# EAGLE library part TPS774* (library texas)
250-mA LDO REGULATORS WITH POWER GOOD OUTPUT Source: (TPS774) <http://www.ti.com/lit/ds/symlink/tps773.pdf>
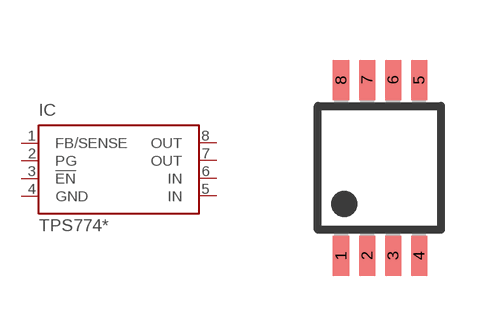
[diagram p18: symbol with the pads of DGK_S-PDSO-G8; footprint DGK_S-PDSO-G8]

Designator prefix IC

## TPS774 (MF: TEXAS INSTRUMENTS; OC_FARNELL: 1412896; OC_NEWARK: unknown)  [DGK_S-PDSO-G8]
1  FB/SENSE  in
2  PG  out
3  !EN  in
4  GND  pwr
5  IN  in
6  IN  in
7  OUT  out
8  OUT  pas

## Footprint DGK_S-PDSO-G8 (pad centres in mm)
8-Pin MSOP (DGK) Package Source: DGK (S-PDSO-G8) <http://www.ti.com/lit/ml/mpds028d/mpds028d.pdf>
smd 0.4 x 1: 1 -0.975,-2.2; 2 -0.325,-2.2; 3 0.325,-2.2; 4 0.975,-2.2; 5 0.975,2.2; 6 0.325,2.2; 7 -0.325,2.2; 8 -0.975,2.2